# Altium footprint library TI Amplifiers and Linear Special Function Amplifier.PcbLib: 176 footprints (part 8 of 12)
Each footprint in its own frame and in the unit in brackets; x right, y up, seen from the top. Pads: shape width x height; smd on the part's side, far side on the other; paste and mask are expansions set on the pad; w line width, h text height; cw(c..) or ccw(c..) is an arc to the next point about the centre after c.
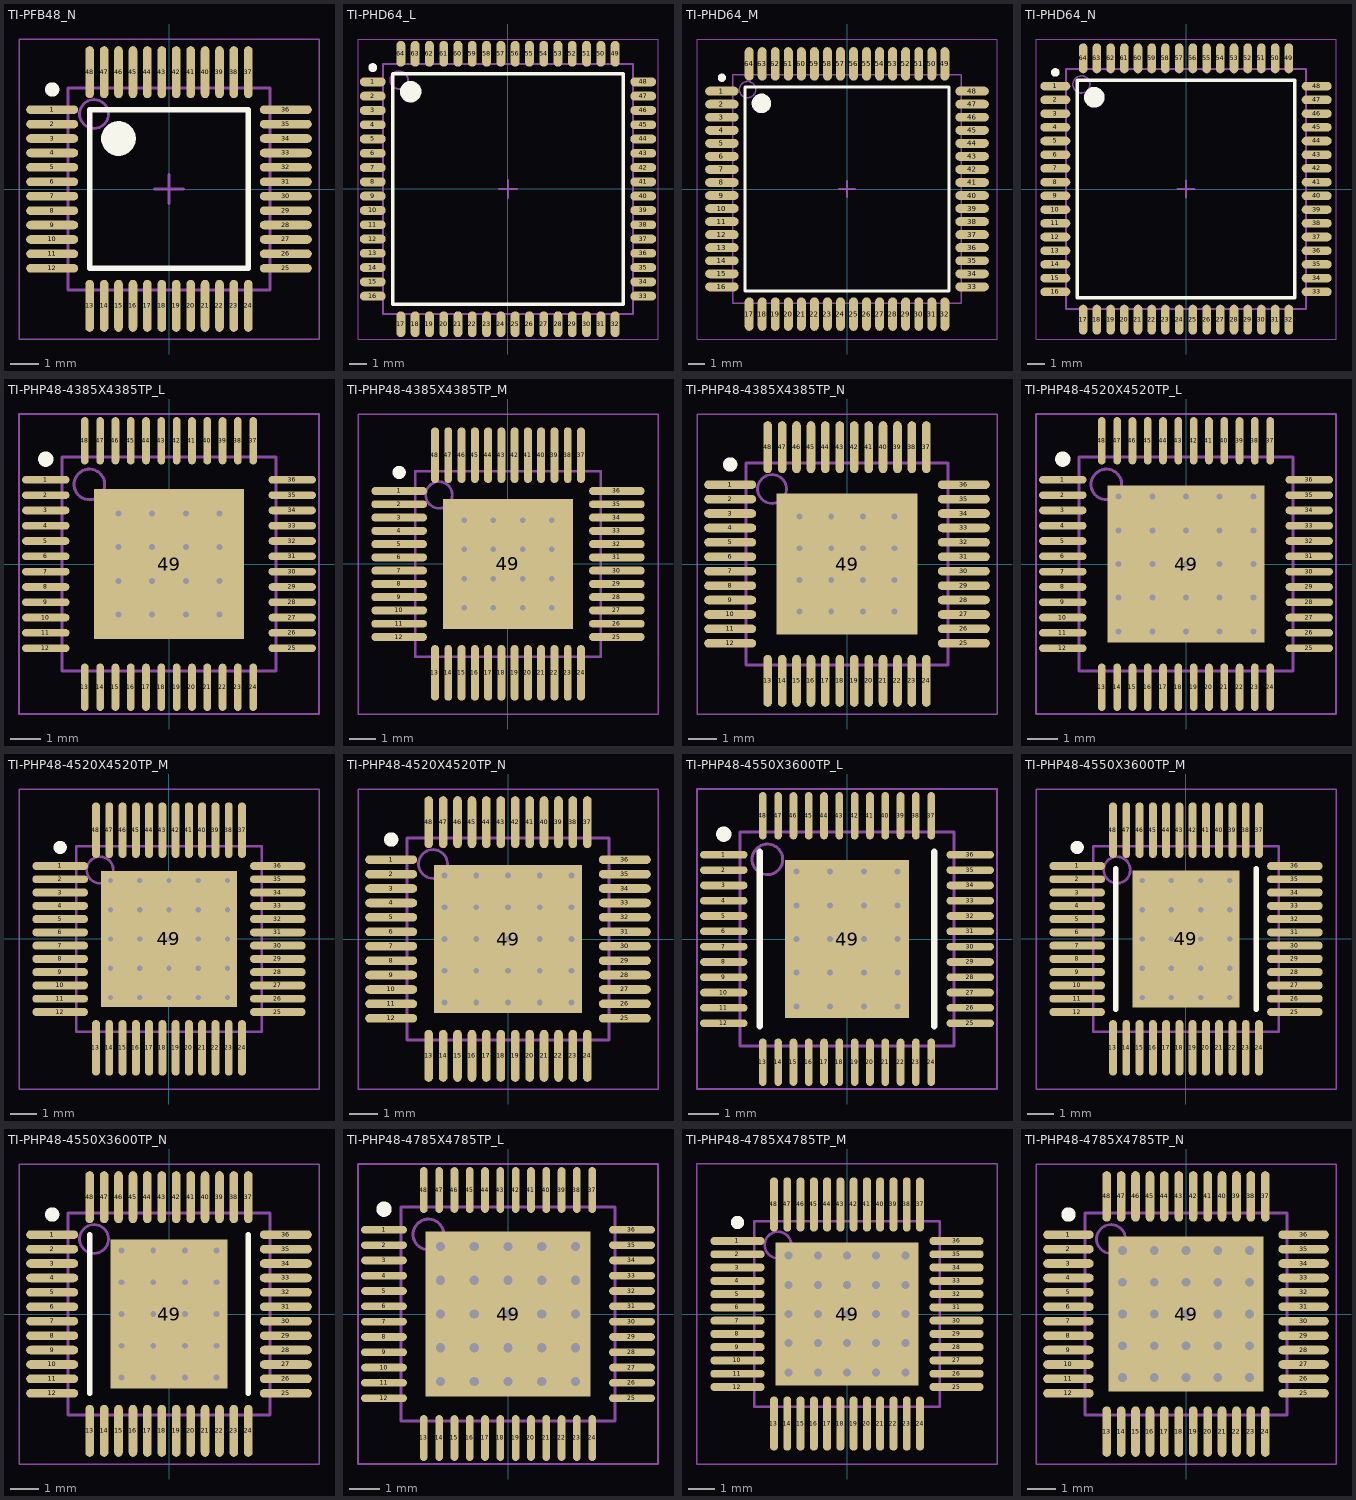
[diagram p7: the footprints below, top view; thin cyan lines are the x and y axes]

## TI-PFB48_N [mm] "QFP, 48-Leads, Body 7x7mm, Pitch 0.5mm, IPC Medium Density"
height 1.2
pads (48):
  oval 1.8x0.3 smd: 1(-4.05,2.75) 2(-4.05,2.25) 3(-4.05,1.75) 4(-4.05,1.25) 5(-4.05,0.75) 6(-4.05,0.25) 7(-4.05,-0.25) 8(-4.05,-0.75) 9(-4.05,-1.25) 10(-4.05,-1.75) 11(-4.05,-2.25) 12(-4.05,-2.75) 25(4.05,-2.75) 26(4.05,-2.25) 27(4.05,-1.75) 28(4.05,-1.25) 29(4.05,-0.75) 30(4.05,-0.25) 31(4.05,0.25) 32(4.05,0.75) 33(4.05,1.25) 34(4.05,1.75) 35(4.05,2.25) 36(4.05,2.75)
  oval 0.3x1.8 smd: 13(-2.75,-4.05) 14(-2.25,-4.05) 15(-1.75,-4.05) 16(-1.25,-4.05) 17(-0.75,-4.05) 18(-0.25,-4.05) 19(0.25,-4.05) 20(0.75,-4.05) 21(1.25,-4.05) 22(1.75,-4.05) 23(2.25,-4.05) 24(2.75,-4.05) 37(2.75,4.05) 38(2.25,4.05) 39(1.75,4.05) 40(1.25,4.05) 41(0.75,4.05) 42(0.25,4.05) 43(-0.25,4.05) 44(-0.75,4.05) 45(-1.25,4.05) 46(-1.75,4.05) 47(-2.25,4.05) 48(-2.75,4.05)
Top Overlay:
  circle w0.25: c-4.05,3.45 r0.125
  circle w0.6: c-1.75,1.75 r0.3
  lines w0.2: -2.75,-2.75 -2.75,2.75 2.75,2.75 2.75,-2.75 -2.75,-2.75
Mechanical 13:
  circle w0.1: c-2.6,2.6 r0.5
  lines w0.1: -3.5,-3.5 -3.5,3.5 3.5,3.5 3.5,-3.5 -3.5,-3.5
Mechanical 15:
  lines w0.05: -5.2,-5.2 -5.2,5.2 5.2,5.2 5.2,-5.2 -5.2,-5.2
  lines w0.1: -0.5,0 0.5,0 ; 0,-0.5 0,0.5
3D body: height 1.2, standoff 0.05, extent -3.5,-3.5 3.5,3.5

## TI-PHD64_L [mm] "QFP, 64-Leads, Body 14x14mm, Pitch 0.8mm, IPC High Density"
height 1.2
pads (64):
  oval 1.45x0.5 smd: 1(-7.575,6) 2(-7.575,5.2) 3(-7.575,4.4) 4(-7.575,3.6) 5(-7.575,2.8) 6(-7.575,2) 7(-7.575,1.2) 8(-7.575,0.4) 9(-7.575,-0.4) 10(-7.575,-1.2) 11(-7.575,-2) 12(-7.575,-2.8) 13(-7.575,-3.6) 14(-7.575,-4.4) 15(-7.575,-5.2) 16(-7.575,-6) 33(7.575,-6) 34(7.575,-5.2) 35(7.575,-4.4) 36(7.575,-3.6) 37(7.575,-2.8) 38(7.575,-2) 39(7.575,-1.2) 40(7.575,-0.4) 41(7.575,0.4) 42(7.575,1.2) 43(7.575,2) 44(7.575,2.8) 45(7.575,3.6) 46(7.575,4.4) 47(7.575,5.2) 48(7.575,6)
  oval 0.5x1.45 smd: 17(-6,-7.575) 18(-5.2,-7.575) 19(-4.4,-7.575) 20(-3.6,-7.575) 21(-2.8,-7.575) 22(-2,-7.575) 23(-1.2,-7.575) 24(-0.4,-7.575) 25(0.4,-7.575) 26(1.2,-7.575) 27(2,-7.575) 28(2.8,-7.575) 29(3.6,-7.575) 30(4.4,-7.575) 31(5.2,-7.575) 32(6,-7.575) 49(6,7.575) 50(5.2,7.575) 51(4.4,7.575) 52(3.6,7.575) 53(2.8,7.575) 54(2,7.575) 55(1.2,7.575) 56(0.4,7.575) 57(-0.4,7.575) 58(-1.2,7.575) 59(-2,7.575) 60(-2.8,7.575) 61(-3.6,7.575) 62(-4.4,7.575) 63(-5.2,7.575) 64(-6,7.575)
Top Overlay:
  circle w0.25: c-7.575,6.8 r0.125
  circle w0.6: c-5.45,5.45 r0.3
  lines w0.2: -6.45,-6.45 -6.45,6.45 6.45,6.45 6.45,-6.45 -6.45,-6.45
Mechanical 13:
  circle w0.1: c-6.1,6.1 r0.5
  lines w0.1: -7,-7 -7,7 7,7 7,-7 -7,-7
Mechanical 15:
  lines w0.05: -8.4,-8.4 -8.4,8.4 8.4,8.4 8.4,-8.4 -8.4,-8.4
  lines w0.1: -0.5,0 0.5,0 ; 0,-0.5 0,0.5
3D body: height 1.2, standoff 0.05, extent -7,-7 7,7

## TI-PHD64_M [mm] "QFP, 64-Leads, Body 14x14mm, Pitch 0.8mm, IPC Low Density"
height 1.2
pads (64):
  oval 2.05x0.55 smd: 1(-7.675,6) 2(-7.675,5.2) 3(-7.675,4.4) 4(-7.675,3.6) 5(-7.675,2.8) 6(-7.675,2) 7(-7.675,1.2) 8(-7.675,0.4) 9(-7.675,-0.4) 10(-7.675,-1.2) 11(-7.675,-2) 12(-7.675,-2.8) 13(-7.675,-3.6) 14(-7.675,-4.4) 15(-7.675,-5.2) 16(-7.675,-6) 33(7.675,-6) 34(7.675,-5.2) 35(7.675,-4.4) 36(7.675,-3.6) 37(7.675,-2.8) 38(7.675,-2) 39(7.675,-1.2) 40(7.675,-0.4) 41(7.675,0.4) 42(7.675,1.2) 43(7.675,2) 44(7.675,2.8) 45(7.675,3.6) 46(7.675,4.4) 47(7.675,5.2) 48(7.675,6)
  oval 0.55x2.05 smd: 17(-6,-7.675) 18(-5.2,-7.675) 19(-4.4,-7.675) 20(-3.6,-7.675) 21(-2.8,-7.675) 22(-2,-7.675) 23(-1.2,-7.675) 24(-0.4,-7.675) 25(0.4,-7.675) 26(1.2,-7.675) 27(2,-7.675) 28(2.8,-7.675) 29(3.6,-7.675) 30(4.4,-7.675) 31(5.2,-7.675) 32(6,-7.675) 49(6,7.675) 50(5.2,7.675) 51(4.4,7.675) 52(3.6,7.675) 53(2.8,7.675) 54(2,7.675) 55(1.2,7.675) 56(0.4,7.675) 57(-0.4,7.675) 58(-1.2,7.675) 59(-2,7.675) 60(-2.8,7.675) 61(-3.6,7.675) 62(-4.4,7.675) 63(-5.2,7.675) 64(-6,7.675)
Top Overlay:
  circle w0.25: c-7.675,6.825 r0.125
  circle w0.6: c-5.25,5.25 r0.3
  lines w0.2: -6.25,-6.25 -6.25,6.25 6.25,6.25 6.25,-6.25 -6.25,-6.25
Mechanical 13:
  circle w0.1: c-6.1,6.1 r0.5
  lines w0.1: -7,-7 -7,7 7,7 7,-7 -7,-7
Mechanical 15:
  lines w0.05: -9.2,-9.2 -9.2,9.2 9.2,9.2 9.2,-9.2 -9.2,-9.2
  lines w0.1: -0.5,0 0.5,0 ; 0,-0.5 0,0.5
3D body: height 1.2, standoff 0.05, extent -7,-7 7,7

## TI-PHD64_N [mm] "QFP, 64-Leads, Body 14x14mm, Pitch 0.8mm, IPC Medium Density"
height 1.2
pads (64):
  oval 1.75x0.5 smd: 1(-7.625,6) 2(-7.625,5.2) 3(-7.625,4.4) 4(-7.625,3.6) 5(-7.625,2.8) 6(-7.625,2) 7(-7.625,1.2) 8(-7.625,0.4) 9(-7.625,-0.4) 10(-7.625,-1.2) 11(-7.625,-2) 12(-7.625,-2.8) 13(-7.625,-3.6) 14(-7.625,-4.4) 15(-7.625,-5.2) 16(-7.625,-6) 33(7.625,-6) 34(7.625,-5.2) 35(7.625,-4.4) 36(7.625,-3.6) 37(7.625,-2.8) 38(7.625,-2) 39(7.625,-1.2) 40(7.625,-0.4) 41(7.625,0.4) 42(7.625,1.2) 43(7.625,2) 44(7.625,2.8) 45(7.625,3.6) 46(7.625,4.4) 47(7.625,5.2) 48(7.625,6)
  oval 0.5x1.75 smd: 17(-6,-7.625) 18(-5.2,-7.625) 19(-4.4,-7.625) 20(-3.6,-7.625) 21(-2.8,-7.625) 22(-2,-7.625) 23(-1.2,-7.625) 24(-0.4,-7.625) 25(0.4,-7.625) 26(1.2,-7.625) 27(2,-7.625) 28(2.8,-7.625) 29(3.6,-7.625) 30(4.4,-7.625) 31(5.2,-7.625) 32(6,-7.625) 49(6,7.625) 50(5.2,7.625) 51(4.4,7.625) 52(3.6,7.625) 53(2.8,7.625) 54(2,7.625) 55(1.2,7.625) 56(0.4,7.625) 57(-0.4,7.625) 58(-1.2,7.625) 59(-2,7.625) 60(-2.8,7.625) 61(-3.6,7.625) 62(-4.4,7.625) 63(-5.2,7.625) 64(-6,7.625)
Top Overlay:
  circle w0.25: c-7.625,6.8 r0.125
  circle w0.6: c-5.35,5.35 r0.3
  lines w0.2: -6.35,-6.35 -6.35,6.35 6.35,6.35 6.35,-6.35 -6.35,-6.35
Mechanical 13:
  circle w0.1: c-6.1,6.1 r0.5
  lines w0.1: -7,-7 -7,7 7,7 7,-7 -7,-7
Mechanical 15:
  lines w0.05: -8.75,-8.75 -8.75,8.75 8.75,8.75 8.75,-8.75 -8.75,-8.75
  lines w0.1: -0.5,0 0.5,0 ; 0,-0.5 0,0.5
3D body: height 1.2, standoff 0.05, extent -7,-7 7,7

## TI-PHP48-4385X4385TP_L [mm] "QFP, 48-Leads, Body 7x7mm, Pitch 0.5mm, Thermal Pad 4.9x4.9mm, IPC High Density"
height 1.2
pads (49):
  oval 1.55x0.25 smd: 1(-4.025,2.75) 2(-4.025,2.25) 3(-4.025,1.75) 4(-4.025,1.25) 5(-4.025,0.75) 6(-4.025,0.25) 7(-4.025,-0.25) 8(-4.025,-0.75) 9(-4.025,-1.25) 10(-4.025,-1.75) 11(-4.025,-2.25) 12(-4.025,-2.75) 25(4.025,-2.75) 26(4.025,-2.25) 27(4.025,-1.75) 28(4.025,-1.25) 29(4.025,-0.75) 30(4.025,-0.25) 31(4.025,0.25) 32(4.025,0.75) 33(4.025,1.25) 34(4.025,1.75) 35(4.025,2.25) 36(4.025,2.75)
  oval 0.25x1.55 smd: 13(-2.75,-4.025) 14(-2.25,-4.025) 15(-1.75,-4.025) 16(-1.25,-4.025) 17(-0.75,-4.025) 18(-0.25,-4.025) 19(0.25,-4.025) 20(0.75,-4.025) 21(1.25,-4.025) 22(1.75,-4.025) 23(2.25,-4.025) 24(2.75,-4.025) 37(2.75,4.025) 38(2.25,4.025) 39(1.75,4.025) 40(1.25,4.025) 41(0.75,4.025) 42(0.25,4.025) 43(-0.25,4.025) 44(-0.75,4.025) 45(-1.25,4.025) 46(-1.75,4.025) 47(-2.25,4.025) 48(-2.75,4.025)
  rect 4.9x4.9 smd: 49(0,0)
via -1.65,1.65 diameter 0.5 hole 0.2
via -0.55,1.65 diameter 0.5 hole 0.2
via 0.55,1.65 diameter 0.5 hole 0.2
via 1.65,1.65 diameter 0.5 hole 0.2
via -1.65,0.55 diameter 0.5 hole 0.2
via -0.55,0.55 diameter 0.5 hole 0.2
via 0.55,0.55 diameter 0.5 hole 0.2
via 1.65,0.55 diameter 0.5 hole 0.2
via -1.65,-0.55 diameter 0.5 hole 0.2
via -0.55,-0.55 diameter 0.5 hole 0.2
via 0.55,-0.55 diameter 0.5 hole 0.2
via 1.65,-0.55 diameter 0.5 hole 0.2
via -1.65,-1.65 diameter 0.5 hole 0.2
via -0.55,-1.65 diameter 0.5 hole 0.2
via 0.55,-1.65 diameter 0.5 hole 0.2
via 1.65,-1.65 diameter 0.5 hole 0.2
Top Overlay:
  circle w0.25: c-4.025,3.425 r0.125
Mechanical 13:
  circle w0.1: c-2.6,2.6 r0.5
  lines w0.1: -3.5,-3.5 -3.5,3.5 3.5,3.5 3.5,-3.5 -3.5,-3.5
Mechanical 15:
  lines w0.05: -4.9,-4.9 -4.9,4.9 4.9,4.9 4.9,-4.9 -4.9,-4.9
  lines w0.1: -0.5,0 0.5,0 ; 0,-0.5 0,0.5
3D body: height 1.2, standoff 0.05, extent -3.5,-3.5 3.5,3.5

## TI-PHP48-4385X4385TP_M [mm] "QFP, 48-Leads, Body 7x7mm, Pitch 0.5mm, Thermal Pad 4.9x4.9mm, IPC Low Density"
height 1.2
pads (49):
  oval 2.1x0.3 smd: 1(-4.1,2.75) 2(-4.1,2.25) 3(-4.1,1.75) 4(-4.1,1.25) 5(-4.1,0.75) 6(-4.1,0.25) 7(-4.1,-0.25) 8(-4.1,-0.75) 9(-4.1,-1.25) 10(-4.1,-1.75) 11(-4.1,-2.25) 12(-4.1,-2.75) 25(4.1,-2.75) 26(4.1,-2.25) 27(4.1,-1.75) 28(4.1,-1.25) 29(4.1,-0.75) 30(4.1,-0.25) 31(4.1,0.25) 32(4.1,0.75) 33(4.1,1.25) 34(4.1,1.75) 35(4.1,2.25) 36(4.1,2.75)
  oval 0.3x2.1 smd: 13(-2.75,-4.1) 14(-2.25,-4.1) 15(-1.75,-4.1) 16(-1.25,-4.1) 17(-0.75,-4.1) 18(-0.25,-4.1) 19(0.25,-4.1) 20(0.75,-4.1) 21(1.25,-4.1) 22(1.75,-4.1) 23(2.25,-4.1) 24(2.75,-4.1) 37(2.75,4.1) 38(2.25,4.1) 39(1.75,4.1) 40(1.25,4.1) 41(0.75,4.1) 42(0.25,4.1) 43(-0.25,4.1) 44(-0.75,4.1) 45(-1.25,4.1) 46(-1.75,4.1) 47(-2.25,4.1) 48(-2.75,4.1)
  rect 4.9x4.9 smd: 49(0,0)
via -1.65,1.65 diameter 0.5 hole 0.2
via -0.55,1.65 diameter 0.5 hole 0.2
via 0.55,1.65 diameter 0.5 hole 0.2
via 1.65,1.65 diameter 0.5 hole 0.2
via -1.65,0.55 diameter 0.5 hole 0.2
via -0.55,0.55 diameter 0.5 hole 0.2
via 0.55,0.55 diameter 0.5 hole 0.2
via 1.65,0.55 diameter 0.5 hole 0.2
via -1.65,-0.55 diameter 0.5 hole 0.2
via -0.55,-0.55 diameter 0.5 hole 0.2
via 0.55,-0.55 diameter 0.5 hole 0.2
via 1.65,-0.55 diameter 0.5 hole 0.2
via -1.65,-1.65 diameter 0.5 hole 0.2
via -0.55,-1.65 diameter 0.5 hole 0.2
via 0.55,-1.65 diameter 0.5 hole 0.2
via 1.65,-1.65 diameter 0.5 hole 0.2
Top Overlay:
  circle w0.25: c-4.1,3.45 r0.125
Mechanical 13:
  circle w0.1: c-2.6,2.6 r0.5
  lines w0.1: -3.5,-3.5 -3.5,3.5 3.5,3.5 3.5,-3.5 -3.5,-3.5
Mechanical 15:
  lines w0.05: -5.65,-5.65 -5.65,5.65 5.65,5.65 5.65,-5.65 -5.65,-5.65
  lines w0.1: -0.5,0 0.5,0 ; 0,-0.5 0,0.5
3D body: height 1.2, standoff 0.05, extent -3.5,-3.5 3.5,3.5

## TI-PHP48-4385X4385TP_N [mm] "QFP, 48-Leads, Body 7x7mm, Pitch 0.5mm, Thermal Pad 4.9x4.9mm, IPC Medium Density"
height 1.2
pads (49):
  oval 1.8x0.3 smd: 1(-4.05,2.75) 2(-4.05,2.25) 3(-4.05,1.75) 4(-4.05,1.25) 5(-4.05,0.75) 6(-4.05,0.25) 7(-4.05,-0.25) 8(-4.05,-0.75) 9(-4.05,-1.25) 10(-4.05,-1.75) 11(-4.05,-2.25) 12(-4.05,-2.75) 25(4.05,-2.75) 26(4.05,-2.25) 27(4.05,-1.75) 28(4.05,-1.25) 29(4.05,-0.75) 30(4.05,-0.25) 31(4.05,0.25) 32(4.05,0.75) 33(4.05,1.25) 34(4.05,1.75) 35(4.05,2.25) 36(4.05,2.75)
  oval 0.3x1.8 smd: 13(-2.75,-4.05) 14(-2.25,-4.05) 15(-1.75,-4.05) 16(-1.25,-4.05) 17(-0.75,-4.05) 18(-0.25,-4.05) 19(0.25,-4.05) 20(0.75,-4.05) 21(1.25,-4.05) 22(1.75,-4.05) 23(2.25,-4.05) 24(2.75,-4.05) 37(2.75,4.05) 38(2.25,4.05) 39(1.75,4.05) 40(1.25,4.05) 41(0.75,4.05) 42(0.25,4.05) 43(-0.25,4.05) 44(-0.75,4.05) 45(-1.25,4.05) 46(-1.75,4.05) 47(-2.25,4.05) 48(-2.75,4.05)
  rect 4.9x4.9 smd: 49(0,0)
via -1.65,1.65 diameter 0.5 hole 0.2
via -0.55,1.65 diameter 0.5 hole 0.2
via 0.55,1.65 diameter 0.5 hole 0.2
via 1.65,1.65 diameter 0.5 hole 0.2
via -1.65,0.55 diameter 0.5 hole 0.2
via -0.55,0.55 diameter 0.5 hole 0.2
via 0.55,0.55 diameter 0.5 hole 0.2
via 1.65,0.55 diameter 0.5 hole 0.2
via -1.65,-0.55 diameter 0.5 hole 0.2
via -0.55,-0.55 diameter 0.5 hole 0.2
via 0.55,-0.55 diameter 0.5 hole 0.2
via 1.65,-0.55 diameter 0.5 hole 0.2
via -1.65,-1.65 diameter 0.5 hole 0.2
via -0.55,-1.65 diameter 0.5 hole 0.2
via 0.55,-1.65 diameter 0.5 hole 0.2
via 1.65,-1.65 diameter 0.5 hole 0.2
Top Overlay:
  circle w0.25: c-4.05,3.45 r0.125
Mechanical 13:
  circle w0.1: c-2.6,2.6 r0.5
  lines w0.1: -3.5,-3.5 -3.5,3.5 3.5,3.5 3.5,-3.5 -3.5,-3.5
Mechanical 15:
  lines w0.05: -5.2,-5.2 -5.2,5.2 5.2,5.2 5.2,-5.2 -5.2,-5.2
  lines w0.1: -0.5,0 0.5,0 ; 0,-0.5 0,0.5
3D body: height 1.2, standoff 0.05, extent -3.5,-3.5 3.5,3.5

## TI-PHP48-4520X4520TP_L [mm] "QFP, 48-Leads, Body 7x7mm, Pitch 0.5mm, Thermal Pad 5.14x5.14mm, IPC High Density"
height 1.2
pads (49):
  oval 1.55x0.25 smd: 1(-4.025,2.75) 2(-4.025,2.25) 3(-4.025,1.75) 4(-4.025,1.25) 5(-4.025,0.75) 6(-4.025,0.25) 7(-4.025,-0.25) 8(-4.025,-0.75) 9(-4.025,-1.25) 10(-4.025,-1.75) 11(-4.025,-2.25) 12(-4.025,-2.75) 25(4.025,-2.75) 26(4.025,-2.25) 27(4.025,-1.75) 28(4.025,-1.25) 29(4.025,-0.75) 30(4.025,-0.25) 31(4.025,0.25) 32(4.025,0.75) 33(4.025,1.25) 34(4.025,1.75) 35(4.025,2.25) 36(4.025,2.75)
  oval 0.25x1.55 smd: 13(-2.75,-4.025) 14(-2.25,-4.025) 15(-1.75,-4.025) 16(-1.25,-4.025) 17(-0.75,-4.025) 18(-0.25,-4.025) 19(0.25,-4.025) 20(0.75,-4.025) 21(1.25,-4.025) 22(1.75,-4.025) 23(2.25,-4.025) 24(2.75,-4.025) 37(2.75,4.025) 38(2.25,4.025) 39(1.75,4.025) 40(1.25,4.025) 41(0.75,4.025) 42(0.25,4.025) 43(-0.25,4.025) 44(-0.75,4.025) 45(-1.25,4.025) 46(-1.75,4.025) 47(-2.25,4.025) 48(-2.75,4.025)
  rect 5.14x5.14 smd: 49(0,0)
via -2.2,2.2 diameter 0.5 hole 0.2
via -1.1,2.2 diameter 0.5 hole 0.2
via 0,2.2 diameter 0.5 hole 0.2
via 1.1,2.2 diameter 0.5 hole 0.2
via 2.2,2.2 diameter 0.5 hole 0.2
via -2.2,1.1 diameter 0.5 hole 0.2
via -1.1,1.1 diameter 0.5 hole 0.2
via 0,1.1 diameter 0.5 hole 0.2
via 1.1,1.1 diameter 0.5 hole 0.2
via 2.2,1.1 diameter 0.5 hole 0.2
via -2.2,0 diameter 0.5 hole 0.2
via -1.1,0 diameter 0.5 hole 0.2
via 0,0 diameter 0.5 hole 0.2
via 1.1,0 diameter 0.5 hole 0.2
via 2.2,0 diameter 0.5 hole 0.2
via -2.2,-1.1 diameter 0.5 hole 0.2
via -1.1,-1.1 diameter 0.5 hole 0.2
via 0,-1.1 diameter 0.5 hole 0.2
via 1.1,-1.1 diameter 0.5 hole 0.2
via 2.2,-1.1 diameter 0.5 hole 0.2
via -2.2,-2.2 diameter 0.5 hole 0.2
via -1.1,-2.2 diameter 0.5 hole 0.2
via 0,-2.2 diameter 0.5 hole 0.2
via 1.1,-2.2 diameter 0.5 hole 0.2
via 2.2,-2.2 diameter 0.5 hole 0.2
Top Overlay:
  circle w0.25: c-4.025,3.425 r0.125
Mechanical 13:
  circle w0.1: c-2.6,2.6 r0.5
  lines w0.1: -3.5,-3.5 -3.5,3.5 3.5,3.5 3.5,-3.5 -3.5,-3.5
Mechanical 15:
  lines w0.05: -4.9,-4.9 -4.9,4.9 4.9,4.9 4.9,-4.9 -4.9,-4.9
  lines w0.1: -0.5,0 0.5,0 ; 0,-0.5 0,0.5
3D body: height 1.2, standoff 0.05, extent -3.5,-3.5 3.5,3.5

## TI-PHP48-4520X4520TP_M [mm] "QFP, 48-Leads, Body 7x7mm, Pitch 0.5mm, Thermal Pad 5.14x5.14mm, IPC Low Density"
height 1.2
pads (49):
  oval 2.1x0.3 smd: 1(-4.1,2.75) 2(-4.1,2.25) 3(-4.1,1.75) 4(-4.1,1.25) 5(-4.1,0.75) 6(-4.1,0.25) 7(-4.1,-0.25) 8(-4.1,-0.75) 9(-4.1,-1.25) 10(-4.1,-1.75) 11(-4.1,-2.25) 12(-4.1,-2.75) 25(4.1,-2.75) 26(4.1,-2.25) 27(4.1,-1.75) 28(4.1,-1.25) 29(4.1,-0.75) 30(4.1,-0.25) 31(4.1,0.25) 32(4.1,0.75) 33(4.1,1.25) 34(4.1,1.75) 35(4.1,2.25) 36(4.1,2.75)
  oval 0.3x2.1 smd: 13(-2.75,-4.1) 14(-2.25,-4.1) 15(-1.75,-4.1) 16(-1.25,-4.1) 17(-0.75,-4.1) 18(-0.25,-4.1) 19(0.25,-4.1) 20(0.75,-4.1) 21(1.25,-4.1) 22(1.75,-4.1) 23(2.25,-4.1) 24(2.75,-4.1) 37(2.75,4.1) 38(2.25,4.1) 39(1.75,4.1) 40(1.25,4.1) 41(0.75,4.1) 42(0.25,4.1) 43(-0.25,4.1) 44(-0.75,4.1) 45(-1.25,4.1) 46(-1.75,4.1) 47(-2.25,4.1) 48(-2.75,4.1)
  rect 5.14x5.14 smd: 49(0,0)
via -2.2,2.2 diameter 0.5 hole 0.2
via -1.1,2.2 diameter 0.5 hole 0.2
via 0,2.2 diameter 0.5 hole 0.2
via 1.1,2.2 diameter 0.5 hole 0.2
via 2.2,2.2 diameter 0.5 hole 0.2
via -2.2,1.1 diameter 0.5 hole 0.2
via -1.1,1.1 diameter 0.5 hole 0.2
via 0,1.1 diameter 0.5 hole 0.2
via 1.1,1.1 diameter 0.5 hole 0.2
via 2.2,1.1 diameter 0.5 hole 0.2
via -2.2,0 diameter 0.5 hole 0.2
via -1.1,0 diameter 0.5 hole 0.2
via 0,0 diameter 0.5 hole 0.2
via 1.1,0 diameter 0.5 hole 0.2
via 2.2,0 diameter 0.5 hole 0.2
via -2.2,-1.1 diameter 0.5 hole 0.2
via -1.1,-1.1 diameter 0.5 hole 0.2
via 0,-1.1 diameter 0.5 hole 0.2
via 1.1,-1.1 diameter 0.5 hole 0.2
via 2.2,-1.1 diameter 0.5 hole 0.2
via -2.2,-2.2 diameter 0.5 hole 0.2
via -1.1,-2.2 diameter 0.5 hole 0.2
via 0,-2.2 diameter 0.5 hole 0.2
via 1.1,-2.2 diameter 0.5 hole 0.2
via 2.2,-2.2 diameter 0.5 hole 0.2
Top Overlay:
  circle w0.25: c-4.1,3.45 r0.125
Mechanical 13:
  circle w0.1: c-2.6,2.6 r0.5
  lines w0.1: -3.5,-3.5 -3.5,3.5 3.5,3.5 3.5,-3.5 -3.5,-3.5
Mechanical 15:
  lines w0.05: -5.65,-5.65 -5.65,5.65 5.65,5.65 5.65,-5.65 -5.65,-5.65
  lines w0.1: -0.5,0 0.5,0 ; 0,-0.5 0,0.5
3D body: height 1.2, standoff 0.05, extent -3.5,-3.5 3.5,3.5

## TI-PHP48-4520X4520TP_N [mm] "QFP, 48-Leads, Body 7x7mm, Pitch 0.5mm, Thermal Pad 5.14x5.14mm, IPC Medium Density"
height 1.2
pads (49):
  oval 1.8x0.3 smd: 1(-4.05,2.75) 2(-4.05,2.25) 3(-4.05,1.75) 4(-4.05,1.25) 5(-4.05,0.75) 6(-4.05,0.25) 7(-4.05,-0.25) 8(-4.05,-0.75) 9(-4.05,-1.25) 10(-4.05,-1.75) 11(-4.05,-2.25) 12(-4.05,-2.75) 25(4.05,-2.75) 26(4.05,-2.25) 27(4.05,-1.75) 28(4.05,-1.25) 29(4.05,-0.75) 30(4.05,-0.25) 31(4.05,0.25) 32(4.05,0.75) 33(4.05,1.25) 34(4.05,1.75) 35(4.05,2.25) 36(4.05,2.75)
  oval 0.3x1.8 smd: 13(-2.75,-4.05) 14(-2.25,-4.05) 15(-1.75,-4.05) 16(-1.25,-4.05) 17(-0.75,-4.05) 18(-0.25,-4.05) 19(0.25,-4.05) 20(0.75,-4.05) 21(1.25,-4.05) 22(1.75,-4.05) 23(2.25,-4.05) 24(2.75,-4.05) 37(2.75,4.05) 38(2.25,4.05) 39(1.75,4.05) 40(1.25,4.05) 41(0.75,4.05) 42(0.25,4.05) 43(-0.25,4.05) 44(-0.75,4.05) 45(-1.25,4.05) 46(-1.75,4.05) 47(-2.25,4.05) 48(-2.75,4.05)
  rect 5.14x5.14 smd: 49(0,0)
via -2.2,2.2 diameter 0.5 hole 0.2
via -1.1,2.2 diameter 0.5 hole 0.2
via 0,2.2 diameter 0.5 hole 0.2
via 1.1,2.2 diameter 0.5 hole 0.2
via 2.2,2.2 diameter 0.5 hole 0.2
via -2.2,1.1 diameter 0.5 hole 0.2
via -1.1,1.1 diameter 0.5 hole 0.2
via 0,1.1 diameter 0.5 hole 0.2
via 1.1,1.1 diameter 0.5 hole 0.2
via 2.2,1.1 diameter 0.5 hole 0.2
via -2.2,0 diameter 0.5 hole 0.2
via -1.1,0 diameter 0.5 hole 0.2
via 0,0 diameter 0.5 hole 0.2
via 1.1,0 diameter 0.5 hole 0.2
via 2.2,0 diameter 0.5 hole 0.2
via -2.2,-1.1 diameter 0.5 hole 0.2
via -1.1,-1.1 diameter 0.5 hole 0.2
via 0,-1.1 diameter 0.5 hole 0.2
via 1.1,-1.1 diameter 0.5 hole 0.2
via 2.2,-1.1 diameter 0.5 hole 0.2
via -2.2,-2.2 diameter 0.5 hole 0.2
via -1.1,-2.2 diameter 0.5 hole 0.2
via 0,-2.2 diameter 0.5 hole 0.2
via 1.1,-2.2 diameter 0.5 hole 0.2
via 2.2,-2.2 diameter 0.5 hole 0.2
Top Overlay:
  circle w0.25: c-4.05,3.45 r0.125
Mechanical 13:
  circle w0.1: c-2.6,2.6 r0.5
  lines w0.1: -3.5,-3.5 -3.5,3.5 3.5,3.5 3.5,-3.5 -3.5,-3.5
Mechanical 15:
  lines w0.05: -5.2,-5.2 -5.2,5.2 5.2,5.2 5.2,-5.2 -5.2,-5.2
  lines w0.1: -0.5,0 0.5,0 ; 0,-0.5 0,0.5
3D body: height 1.2, standoff 0.05, extent -3.5,-3.5 3.5,3.5

## TI-PHP48-4550X3600TP_L [mm] "QFP, 48-Leads, Body 7x7mm, Pitch 0.5mm, Thermal Pad 5.17x4.04mm, IPC High Density"
height 1.2
pads (49):
  oval 1.55x0.25 smd: 1(-4.025,2.75) 2(-4.025,2.25) 3(-4.025,1.75) 4(-4.025,1.25) 5(-4.025,0.75) 6(-4.025,0.25) 7(-4.025,-0.25) 8(-4.025,-0.75) 9(-4.025,-1.25) 10(-4.025,-1.75) 11(-4.025,-2.25) 12(-4.025,-2.75) 25(4.025,-2.75) 26(4.025,-2.25) 27(4.025,-1.75) 28(4.025,-1.25) 29(4.025,-0.75) 30(4.025,-0.25) 31(4.025,0.25) 32(4.025,0.75) 33(4.025,1.25) 34(4.025,1.75) 35(4.025,2.25) 36(4.025,2.75)
  oval 0.25x1.55 smd: 13(-2.75,-4.025) 14(-2.25,-4.025) 15(-1.75,-4.025) 16(-1.25,-4.025) 17(-0.75,-4.025) 18(-0.25,-4.025) 19(0.25,-4.025) 20(0.75,-4.025) 21(1.25,-4.025) 22(1.75,-4.025) 23(2.25,-4.025) 24(2.75,-4.025) 37(2.75,4.025) 38(2.25,4.025) 39(1.75,4.025) 40(1.25,4.025) 41(0.75,4.025) 42(0.25,4.025) 43(-0.25,4.025) 44(-0.75,4.025) 45(-1.25,4.025) 46(-1.75,4.025) 47(-2.25,4.025) 48(-2.75,4.025)
  rect 4.04x5.17 smd: 49(0,0)
via -1.65,2.2 diameter 0.5 hole 0.2
via -0.55,2.2 diameter 0.5 hole 0.2
via 0.55,2.2 diameter 0.5 hole 0.2
via 1.65,2.2 diameter 0.5 hole 0.2
via -1.65,1.1 diameter 0.5 hole 0.2
via -0.55,1.1 diameter 0.5 hole 0.2
via 0.55,1.1 diameter 0.5 hole 0.2
via 1.65,1.1 diameter 0.5 hole 0.2
via -1.65,0 diameter 0.5 hole 0.2
via -0.55,0 diameter 0.5 hole 0.2
via 0.55,0 diameter 0.5 hole 0.2
via 1.65,0 diameter 0.5 hole 0.2
via -1.65,-1.1 diameter 0.5 hole 0.2
via -0.55,-1.1 diameter 0.5 hole 0.2
via 0.55,-1.1 diameter 0.5 hole 0.2
via 1.65,-1.1 diameter 0.5 hole 0.2
via -1.65,-2.2 diameter 0.5 hole 0.2
via -0.55,-2.2 diameter 0.5 hole 0.2
via 0.55,-2.2 diameter 0.5 hole 0.2
via 1.65,-2.2 diameter 0.5 hole 0.2
Top Overlay:
  circle w0.25: c-4.025,3.425 r0.125
  lines w0.2: -2.85,-2.85 -2.85,2.85 ; 2.85,-2.85 2.85,2.85
Mechanical 13:
  circle w0.1: c-2.6,2.6 r0.5
  lines w0.1: -3.5,-3.5 -3.5,3.5 3.5,3.5 3.5,-3.5 -3.5,-3.5
Mechanical 15:
  lines w0.05: -4.9,-4.9 -4.9,4.9 4.9,4.9 4.9,-4.9 -4.9,-4.9
  lines w0.1: -0.5,0 0.5,0 ; 0,-0.5 0,0.5
3D body: height 1.2, standoff 0.05, extent -3.5,-3.5 3.5,3.5

## TI-PHP48-4550X3600TP_M [mm] "QFP, 48-Leads, Body 7x7mm, Pitch 0.5mm, Thermal Pad 5.17x4.04mm, IPC Low Density"
height 1.2
pads (49):
  oval 2.1x0.3 smd: 1(-4.1,2.75) 2(-4.1,2.25) 3(-4.1,1.75) 4(-4.1,1.25) 5(-4.1,0.75) 6(-4.1,0.25) 7(-4.1,-0.25) 8(-4.1,-0.75) 9(-4.1,-1.25) 10(-4.1,-1.75) 11(-4.1,-2.25) 12(-4.1,-2.75) 25(4.1,-2.75) 26(4.1,-2.25) 27(4.1,-1.75) 28(4.1,-1.25) 29(4.1,-0.75) 30(4.1,-0.25) 31(4.1,0.25) 32(4.1,0.75) 33(4.1,1.25) 34(4.1,1.75) 35(4.1,2.25) 36(4.1,2.75)
  oval 0.3x2.1 smd: 13(-2.75,-4.1) 14(-2.25,-4.1) 15(-1.75,-4.1) 16(-1.25,-4.1) 17(-0.75,-4.1) 18(-0.25,-4.1) 19(0.25,-4.1) 20(0.75,-4.1) 21(1.25,-4.1) 22(1.75,-4.1) 23(2.25,-4.1) 24(2.75,-4.1) 37(2.75,4.1) 38(2.25,4.1) 39(1.75,4.1) 40(1.25,4.1) 41(0.75,4.1) 42(0.25,4.1) 43(-0.25,4.1) 44(-0.75,4.1) 45(-1.25,4.1) 46(-1.75,4.1) 47(-2.25,4.1) 48(-2.75,4.1)
  rect 4.04x5.17 smd: 49(0,0)
via -1.65,2.2 diameter 0.5 hole 0.2
via -0.55,2.2 diameter 0.5 hole 0.2
via 0.55,2.2 diameter 0.5 hole 0.2
via 1.65,2.2 diameter 0.5 hole 0.2
via -1.65,1.1 diameter 0.5 hole 0.2
via -0.55,1.1 diameter 0.5 hole 0.2
via 0.55,1.1 diameter 0.5 hole 0.2
via 1.65,1.1 diameter 0.5 hole 0.2
via -1.65,0 diameter 0.5 hole 0.2
via -0.55,0 diameter 0.5 hole 0.2
via 0.55,0 diameter 0.5 hole 0.2
via 1.65,0 diameter 0.5 hole 0.2
via -1.65,-1.1 diameter 0.5 hole 0.2
via -0.55,-1.1 diameter 0.5 hole 0.2
via 0.55,-1.1 diameter 0.5 hole 0.2
via 1.65,-1.1 diameter 0.5 hole 0.2
via -1.65,-2.2 diameter 0.5 hole 0.2
via -0.55,-2.2 diameter 0.5 hole 0.2
via 0.55,-2.2 diameter 0.5 hole 0.2
via 1.65,-2.2 diameter 0.5 hole 0.2
Top Overlay:
  circle w0.25: c-4.1,3.45 r0.125
  lines w0.2: -2.65,-2.65 -2.65,2.65 ; 2.65,-2.65 2.65,2.65
Mechanical 13:
  circle w0.1: c-2.6,2.6 r0.5
  lines w0.1: -3.5,-3.5 -3.5,3.5 3.5,3.5 3.5,-3.5 -3.5,-3.5
Mechanical 15:
  lines w0.05: -5.65,-5.65 -5.65,5.65 5.65,5.65 5.65,-5.65 -5.65,-5.65
  lines w0.1: -0.5,0 0.5,0 ; 0,-0.5 0,0.5
3D body: height 1.2, standoff 0.05, extent -3.5,-3.5 3.5,3.5

## TI-PHP48-4550X3600TP_N [mm] "QFP, 48-Leads, Body 7x7mm, Pitch 0.5mm, Thermal Pad 5.17x4.04mm, IPC Medium Density"
height 1.2
pads (49):
  oval 1.8x0.3 smd: 1(-4.05,2.75) 2(-4.05,2.25) 3(-4.05,1.75) 4(-4.05,1.25) 5(-4.05,0.75) 6(-4.05,0.25) 7(-4.05,-0.25) 8(-4.05,-0.75) 9(-4.05,-1.25) 10(-4.05,-1.75) 11(-4.05,-2.25) 12(-4.05,-2.75) 25(4.05,-2.75) 26(4.05,-2.25) 27(4.05,-1.75) 28(4.05,-1.25) 29(4.05,-0.75) 30(4.05,-0.25) 31(4.05,0.25) 32(4.05,0.75) 33(4.05,1.25) 34(4.05,1.75) 35(4.05,2.25) 36(4.05,2.75)
  oval 0.3x1.8 smd: 13(-2.75,-4.05) 14(-2.25,-4.05) 15(-1.75,-4.05) 16(-1.25,-4.05) 17(-0.75,-4.05) 18(-0.25,-4.05) 19(0.25,-4.05) 20(0.75,-4.05) 21(1.25,-4.05) 22(1.75,-4.05) 23(2.25,-4.05) 24(2.75,-4.05) 37(2.75,4.05) 38(2.25,4.05) 39(1.75,4.05) 40(1.25,4.05) 41(0.75,4.05) 42(0.25,4.05) 43(-0.25,4.05) 44(-0.75,4.05) 45(-1.25,4.05) 46(-1.75,4.05) 47(-2.25,4.05) 48(-2.75,4.05)
  rect 4.04x5.17 smd: 49(0,0)
via -1.65,2.2 diameter 0.5 hole 0.2
via -0.55,2.2 diameter 0.5 hole 0.2
via 0.55,2.2 diameter 0.5 hole 0.2
via 1.65,2.2 diameter 0.5 hole 0.2
via -1.65,1.1 diameter 0.5 hole 0.2
via -0.55,1.1 diameter 0.5 hole 0.2
via 0.55,1.1 diameter 0.5 hole 0.2
via 1.65,1.1 diameter 0.5 hole 0.2
via -1.65,0 diameter 0.5 hole 0.2
via -0.55,0 diameter 0.5 hole 0.2
via 0.55,0 diameter 0.5 hole 0.2
via 1.65,0 diameter 0.5 hole 0.2
via -1.65,-1.1 diameter 0.5 hole 0.2
via -0.55,-1.1 diameter 0.5 hole 0.2
via 0.55,-1.1 diameter 0.5 hole 0.2
via 1.65,-1.1 diameter 0.5 hole 0.2
via -1.65,-2.2 diameter 0.5 hole 0.2
via -0.55,-2.2 diameter 0.5 hole 0.2
via 0.55,-2.2 diameter 0.5 hole 0.2
via 1.65,-2.2 diameter 0.5 hole 0.2
Top Overlay:
  circle w0.25: c-4.05,3.45 r0.125
  lines w0.2: -2.75,-2.75 -2.75,2.75 ; 2.75,-2.75 2.75,2.75
Mechanical 13:
  circle w0.1: c-2.6,2.6 r0.5
  lines w0.1: -3.5,-3.5 -3.5,3.5 3.5,3.5 3.5,-3.5 -3.5,-3.5
Mechanical 15:
  lines w0.05: -5.2,-5.2 -5.2,5.2 5.2,5.2 5.2,-5.2 -5.2,-5.2
  lines w0.1: -0.5,0 0.5,0 ; 0,-0.5 0,0.5
3D body: height 1.2, standoff 0.05, extent -3.5,-3.5 3.5,3.5

## TI-PHP48-4785X4785TP_L [mm] "QFP, 48-Leads, Body 7x7mm, Pitch 0.5mm, Thermal Pad 5.39x5.39mm, IPC High Density"
height 1.2
pads (49):
  oval 1.5x0.25 smd: 1(-4.05,2.75) 2(-4.05,2.25) 3(-4.05,1.75) 4(-4.05,1.25) 5(-4.05,0.75) 6(-4.05,0.25) 7(-4.05,-0.25) 8(-4.05,-0.75) 9(-4.05,-1.25) 10(-4.05,-1.75) 11(-4.05,-2.25) 12(-4.05,-2.75) 25(4.05,-2.75) 26(4.05,-2.25) 27(4.05,-1.75) 28(4.05,-1.25) 29(4.05,-0.75) 30(4.05,-0.25) 31(4.05,0.25) 32(4.05,0.75) 33(4.05,1.25) 34(4.05,1.75) 35(4.05,2.25) 36(4.05,2.75)
  oval 0.25x1.5 smd: 13(-2.75,-4.05) 14(-2.25,-4.05) 15(-1.75,-4.05) 16(-1.25,-4.05) 17(-0.75,-4.05) 18(-0.25,-4.05) 19(0.25,-4.05) 20(0.75,-4.05) 21(1.25,-4.05) 22(1.75,-4.05) 23(2.25,-4.05) 24(2.75,-4.05) 37(2.75,4.05) 38(2.25,4.05) 39(1.75,4.05) 40(1.25,4.05) 41(0.75,4.05) 42(0.25,4.05) 43(-0.25,4.05) 44(-0.75,4.05) 45(-1.25,4.05) 46(-1.75,4.05) 47(-2.25,4.05) 48(-2.75,4.05)
  rect 5.39x5.39 smd: 49(0,0)
via -2.2,2.2 diameter 0.5 hole 0.3
via -1.1,2.2 diameter 0.5 hole 0.3
via 0,2.2 diameter 0.5 hole 0.3
via 1.1,2.2 diameter 0.5 hole 0.3
via 2.2,2.2 diameter 0.5 hole 0.3
via -2.2,1.1 diameter 0.5 hole 0.3
via -1.1,1.1 diameter 0.5 hole 0.3
via 0,1.1 diameter 0.5 hole 0.3
via 1.1,1.1 diameter 0.5 hole 0.3
via 2.2,1.1 diameter 0.5 hole 0.3
via -2.2,0 diameter 0.5 hole 0.3
via -1.1,0 diameter 0.5 hole 0.3
via 0,0 diameter 0.5 hole 0.3
via 1.1,0 diameter 0.5 hole 0.3
via 2.2,0 diameter 0.5 hole 0.3
via -2.2,-1.1 diameter 0.5 hole 0.3
via -1.1,-1.1 diameter 0.5 hole 0.3
via 0,-1.1 diameter 0.5 hole 0.3
via 1.1,-1.1 diameter 0.5 hole 0.3
via 2.2,-1.1 diameter 0.5 hole 0.3
via -2.2,-2.2 diameter 0.5 hole 0.3
via -1.1,-2.2 diameter 0.5 hole 0.3
via 0,-2.2 diameter 0.5 hole 0.3
via 1.1,-2.2 diameter 0.5 hole 0.3
via 2.2,-2.2 diameter 0.5 hole 0.3
Top Overlay:
  circle w0.25: c-4.05,3.425 r0.125
Mechanical 13:
  circle w0.1: c-2.6,2.6 r0.5
  lines w0.1: -3.5,-3.5 -3.5,3.5 3.5,3.5 3.5,-3.5 -3.5,-3.5
Mechanical 15:
  lines w0.05: -4.9,-4.9 -4.9,4.9 4.9,4.9 4.9,-4.9 -4.9,-4.9
  lines w0.1: -0.5,0 0.5,0 ; 0,-0.5 0,0.5
3D body: height 1.2, standoff 0.05, extent -3.5,-3.5 3.5,3.5

## TI-PHP48-4785X4785TP_M [mm] "QFP, 48-Leads, Body 7x7mm, Pitch 0.5mm, Thermal Pad 5.39x5.39mm, IPC Low Density"
height 1.2
pads (49):
  oval 2.05x0.3 smd: 1(-4.125,2.75) 2(-4.125,2.25) 3(-4.125,1.75) 4(-4.125,1.25) 5(-4.125,0.75) 6(-4.125,0.25) 7(-4.125,-0.25) 8(-4.125,-0.75) 9(-4.125,-1.25) 10(-4.125,-1.75) 11(-4.125,-2.25) 12(-4.125,-2.75) 25(4.125,-2.75) 26(4.125,-2.25) 27(4.125,-1.75) 28(4.125,-1.25) 29(4.125,-0.75) 30(4.125,-0.25) 31(4.125,0.25) 32(4.125,0.75) 33(4.125,1.25) 34(4.125,1.75) 35(4.125,2.25) 36(4.125,2.75)
  oval 0.3x2.05 smd: 13(-2.75,-4.125) 14(-2.25,-4.125) 15(-1.75,-4.125) 16(-1.25,-4.125) 17(-0.75,-4.125) 18(-0.25,-4.125) 19(0.25,-4.125) 20(0.75,-4.125) 21(1.25,-4.125) 22(1.75,-4.125) 23(2.25,-4.125) 24(2.75,-4.125) 37(2.75,4.125) 38(2.25,4.125) 39(1.75,4.125) 40(1.25,4.125) 41(0.75,4.125) 42(0.25,4.125) 43(-0.25,4.125) 44(-0.75,4.125) 45(-1.25,4.125) 46(-1.75,4.125) 47(-2.25,4.125) 48(-2.75,4.125)
  rect 5.39x5.39 smd: 49(0,0)
via 2.2,-2.2 diameter 0.5 hole 0.3
via 1.1,-2.2 diameter 0.5 hole 0.3
via 0,-2.2 diameter 0.5 hole 0.3
via -1.1,-2.2 diameter 0.5 hole 0.3
via -2.2,-2.2 diameter 0.5 hole 0.3
via 2.2,-1.1 diameter 0.5 hole 0.3
via 1.1,-1.1 diameter 0.5 hole 0.3
via 0,-1.1 diameter 0.5 hole 0.3
via -1.1,-1.1 diameter 0.5 hole 0.3
via -2.2,-1.1 diameter 0.5 hole 0.3
via 2.2,0 diameter 0.5 hole 0.3
via 1.1,0 diameter 0.5 hole 0.3
via 0,0 diameter 0.5 hole 0.3
via -1.1,0 diameter 0.5 hole 0.3
via -2.2,0 diameter 0.5 hole 0.3
via 2.2,1.1 diameter 0.5 hole 0.3
via 1.1,1.1 diameter 0.5 hole 0.3
via 0,1.1 diameter 0.5 hole 0.3
via -1.1,1.1 diameter 0.5 hole 0.3
via -2.2,1.1 diameter 0.5 hole 0.3
via 2.2,2.2 diameter 0.5 hole 0.3
via 1.1,2.2 diameter 0.5 hole 0.3
via 0,2.2 diameter 0.5 hole 0.3
via -1.1,2.2 diameter 0.5 hole 0.3
via -2.2,2.2 diameter 0.5 hole 0.3
Top Overlay:
  circle w0.25: c-4.125,3.45 r0.125
Mechanical 13:
  circle w0.1: c-2.6,2.6 r0.5
  lines w0.1: -3.5,-3.5 3.5,-3.5 3.5,3.5 -3.5,3.5 -3.5,-3.5
Mechanical 15:
  lines w0.05: -5.65,-5.65 5.65,-5.65 5.65,5.65 -5.65,5.65 -5.65,-5.65
  lines w0.1: -0.5,0 0.5,0 ; 0,-0.5 0,0.5
3D body: height 1.2, standoff 0.05, extent -3.5,-3.5 3.5,3.5

## TI-PHP48-4785X4785TP_N [mm] "QFP, 48-Leads, Body 7x7mm, Pitch 0.5mm, Thermal Pad 5.39x5.39mm, IPC Medium Density"
height 1.2
pads (49):
  oval 1.75x0.3 smd: 1(-4.075,2.75) 2(-4.075,2.25) 3(-4.075,1.75) 4(-4.075,1.25) 5(-4.075,0.75) 6(-4.075,0.25) 7(-4.075,-0.25) 8(-4.075,-0.75) 9(-4.075,-1.25) 10(-4.075,-1.75) 11(-4.075,-2.25) 12(-4.075,-2.75) 25(4.075,-2.75) 26(4.075,-2.25) 27(4.075,-1.75) 28(4.075,-1.25) 29(4.075,-0.75) 30(4.075,-0.25) 31(4.075,0.25) 32(4.075,0.75) 33(4.075,1.25) 34(4.075,1.75) 35(4.075,2.25) 36(4.075,2.75)
  oval 0.3x1.75 smd: 13(-2.75,-4.075) 14(-2.25,-4.075) 15(-1.75,-4.075) 16(-1.25,-4.075) 17(-0.75,-4.075) 18(-0.25,-4.075) 19(0.25,-4.075) 20(0.75,-4.075) 21(1.25,-4.075) 22(1.75,-4.075) 23(2.25,-4.075) 24(2.75,-4.075) 37(2.75,4.075) 38(2.25,4.075) 39(1.75,4.075) 40(1.25,4.075) 41(0.75,4.075) 42(0.25,4.075) 43(-0.25,4.075) 44(-0.75,4.075) 45(-1.25,4.075) 46(-1.75,4.075) 47(-2.25,4.075) 48(-2.75,4.075)
  rect 5.39x5.39 smd: 49(0,0)
via 2.2,-2.2 diameter 0.5 hole 0.3
via 1.1,-2.2 diameter 0.5 hole 0.3
via 0,-2.2 diameter 0.5 hole 0.3
via -1.1,-2.2 diameter 0.5 hole 0.3
via -2.2,-2.2 diameter 0.5 hole 0.3
via 2.2,-1.1 diameter 0.5 hole 0.3
via 1.1,-1.1 diameter 0.5 hole 0.3
via 0,-1.1 diameter 0.5 hole 0.3
via -1.1,-1.1 diameter 0.5 hole 0.3
via -2.2,-1.1 diameter 0.5 hole 0.3
via 2.2,0 diameter 0.5 hole 0.3
via 1.1,0 diameter 0.5 hole 0.3
via 0,0 diameter 0.5 hole 0.3
via -1.1,0 diameter 0.5 hole 0.3
via -2.2,0 diameter 0.5 hole 0.3
via 2.2,1.1 diameter 0.5 hole 0.3
via 1.1,1.1 diameter 0.5 hole 0.3
via 0,1.1 diameter 0.5 hole 0.3
via -1.1,1.1 diameter 0.5 hole 0.3
via -2.2,1.1 diameter 0.5 hole 0.3
via 2.2,2.2 diameter 0.5 hole 0.3
via 1.1,2.2 diameter 0.5 hole 0.3
via 0,2.2 diameter 0.5 hole 0.3
via -1.1,2.2 diameter 0.5 hole 0.3
via -2.2,2.2 diameter 0.5 hole 0.3
Top Overlay:
  circle w0.25: c-4.075,3.45 r0.125
Mechanical 13:
  circle w0.1: c-2.6,2.6 r0.5
  lines w0.1: -3.5,-3.5 3.5,-3.5 3.5,3.5 -3.5,3.5 -3.5,-3.5
Mechanical 15:
  lines w0.05: -5.2,-5.2 5.2,-5.2 5.2,5.2 -5.2,5.2 -5.2,-5.2
  lines w0.1: -0.5,0 0.5,0 ; 0,-0.5 0,0.5
3D body: height 1.2, standoff 0.05, extent -3.5,-3.5 3.5,3.5